# EAGLE library part OV2640 (library pimoroni-fpc)
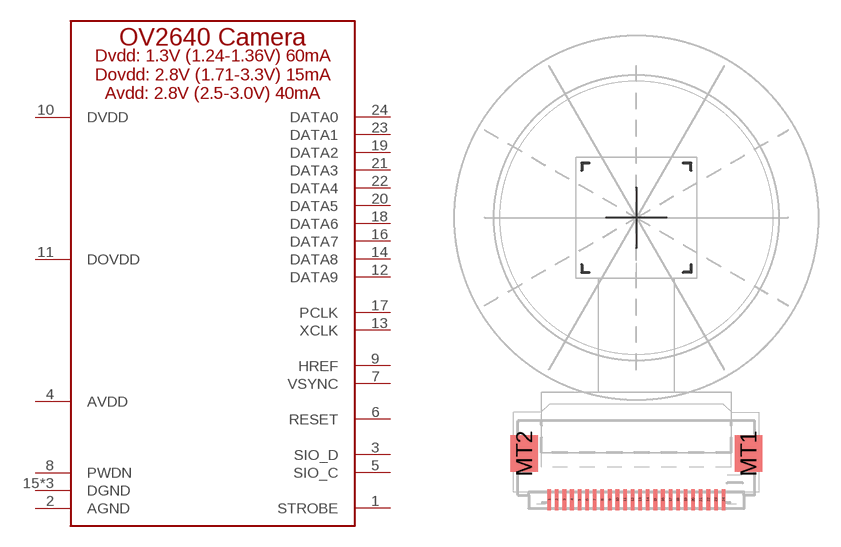
[diagram p56: symbol with the pads of OV2640; footprint OV2640]

Designator prefix CAM

## OV2640  [OV2640]
1  STROBE
2  AGND
3  SIO_D
4  AVDD
5  SIO_C
6  RESET
7  VSYNC
8  PWDN
9  HREF
10  DVDD
11  DOVDD
12  DATA9
13  XCLK
14  DATA8
15  DGND
16  DATA7
17  PCLK
18  DATA6
19  DATA2
20  DATA5
21  DATA3
22  DATA4
23  DATA1
24  DATA0
MT1  DGND
MT2  DGND

## Footprint OV2640 (pad centres in mm)
smd 0.24 x 1.4: 1 -5.75,-18.59; 2 -5.25,-18.59; 3 -4.75,-18.59; 4 -4.25,-18.59; 5 -3.75,-18.59; 6 -3.25,-18.59; 7 -2.75,-18.59; 8 -2.25,-18.59; 9 -1.75,-18.59; 10 -1.25,-18.59; 11 -0.75,-18.59; 12 -0.25,-18.59; 13 0.25,-18.59; 14 0.75,-18.59; 15 1.25,-18.59; 16 1.75,-18.59; 17 2.25,-18.59; 18 2.75,-18.59; 19 3.25,-18.59; 20 3.75,-18.59; 21 4.25,-18.59; 22 4.75,-18.59; 23 5.25,-18.59; 24 5.75,-18.59
smd 1.8 x 2.4: MT1 7.4,-15.54; MT2 -7.4,-15.54